# Altium schematic symbol library Isolator.SchLib: 7 symbols
Pins are listed as number, name and electrical type; pins without a type are passive.

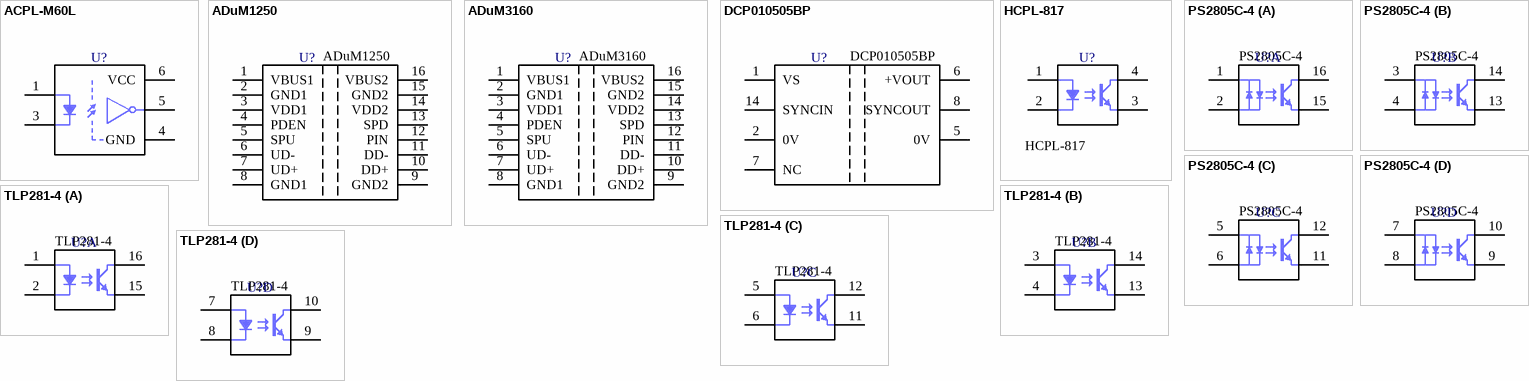
[diagram p0: symbols ACPL-M60L to TLP281-4]

## ACPL-M60L
designator U?
Single Optocoupler; Global part number: ACPL-M60L; Manufacturer: AVAGO; Size: SOP-5; Mount type: SMT
pins: 1 A, 3 K, 4 GND, 5 VO, 6 VCC

## ADuM1250
designator U?
Digital Isolator; Manufacturer: Analog Devices; Size: SOIC-13_300MIL; Mount type: SMT; Global part number: ADuM1250
footprint SOIC-16_300MIL
pins: 1 VBUS1, 2 GND1, 3 VDD1, 4 PDEN, 5 SPU, 6 UD-, 7 UD+, 8 GND1, 9 GND2, 10 DD+, 11 DD-, 12 PIN, 13 SPD, 14 VDD2, 15 GND2, 16 VBUS2

## ADuM3160
designator U?
Digital Isolator; Manufacturer: Analog Devices; Size: SOIC-13_300MIL; Mount type: SMT; Global part number: ADuM3160
footprint SOIC-16_300MIL
pins: 1 VBUS1, 2 GND1, 3 VDD1, 4 PDEN, 5 SPU, 6 UD-, 7 UD+, 8 GND1, 9 GND2, 10 DD+, 11 DD-, 12 PIN, 13 SPD, 14 VDD2, 15 GND2, 16 VBUS2

## DCP010505BP
designator U?
Digital Isolator; Manufacturer: Texas Instruments; Size: PDSO-G7/14; Mount type: SMT; Global part number: DCP010505BP
pins: 1 VS, 2 0V, 5 0V, 6 +VOUT, 7 NC, 8 SYNCOUT, 14 SYNCIN

## HCPL-817
designator U?, comment Global part number: HCPL-817  (hidden comment: AVAGO)
Single Optocoupler; Manufacturer: AVAGO; Mount type: SMT; Size: SMD-4
footprint SMD-4
pins: 1 A, 2 C, 3 E, 4 C

## PS2805C-4
designator U?
Quad Optocoupler; Manufacturer: RENESAS; Mount type: SMT; Size: SOIC-16; Global part number: PS2805C-4
footprint SOIC-16
part A pins: 1 A, 2 K, 15 E, 16 C
part B pins: 3 A, 4 K, 13 E, 14 C
part C pins: 5 A, 6 K, 11 E, 12 C
part D pins: 7 A, 8 K, 9 E, 10 C

## TLP281-4
designator U?
Quad Optocoupler; Manufacturer: TOSHIBA; Mount type: SMT; Size: SOIC-16; Global part number: TLP281-4
footprint SOIC-16
part A pins: 1 A, 2 K, 15 E, 16 C
part B pins: 3 A, 4 K, 13 E, 14 C
part C pins: 5 A, 6 K, 11 E, 12 C
part D pins: 7 A, 8 K, 9 E, 10 C